# EAGLE library part SPTA_1/11-3.5 (library Traficon)
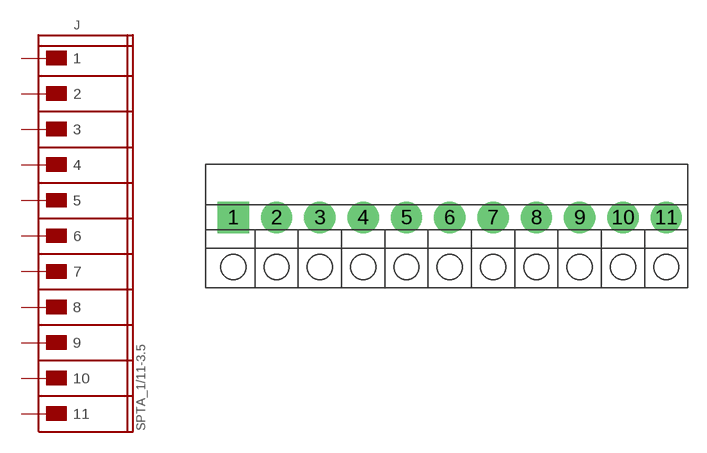
[diagram p229: symbol with the pads of SPTA-11; footprint SPTA-11]

Designator prefix J

## SPTA_1/11-3.5  [SPTA-11]
1  1
2  2
3  3
4  4
5  5
6  6
7  7
8  8
9  9
10  10
11  11

## Footprint SPTA-11 (pad centres in mm)
drill 1.1 pad 2.54 square: 1 -17.5,0
drill 1.1 pad 2.54 round: 2 -14,0; 3 -10.5,0; 4 -7,0; 5 -3.5,0; 6 0,0; 7 3.5,0; 8 7,0; 9 10.5,0; 10 14,0; 11 17.5,0